# Altium schematic symbol library Adafruit PyGamer_1.SCHLIB: 52 symbols
Pins are listed as number, name and electrical type; pins without a type are passive.

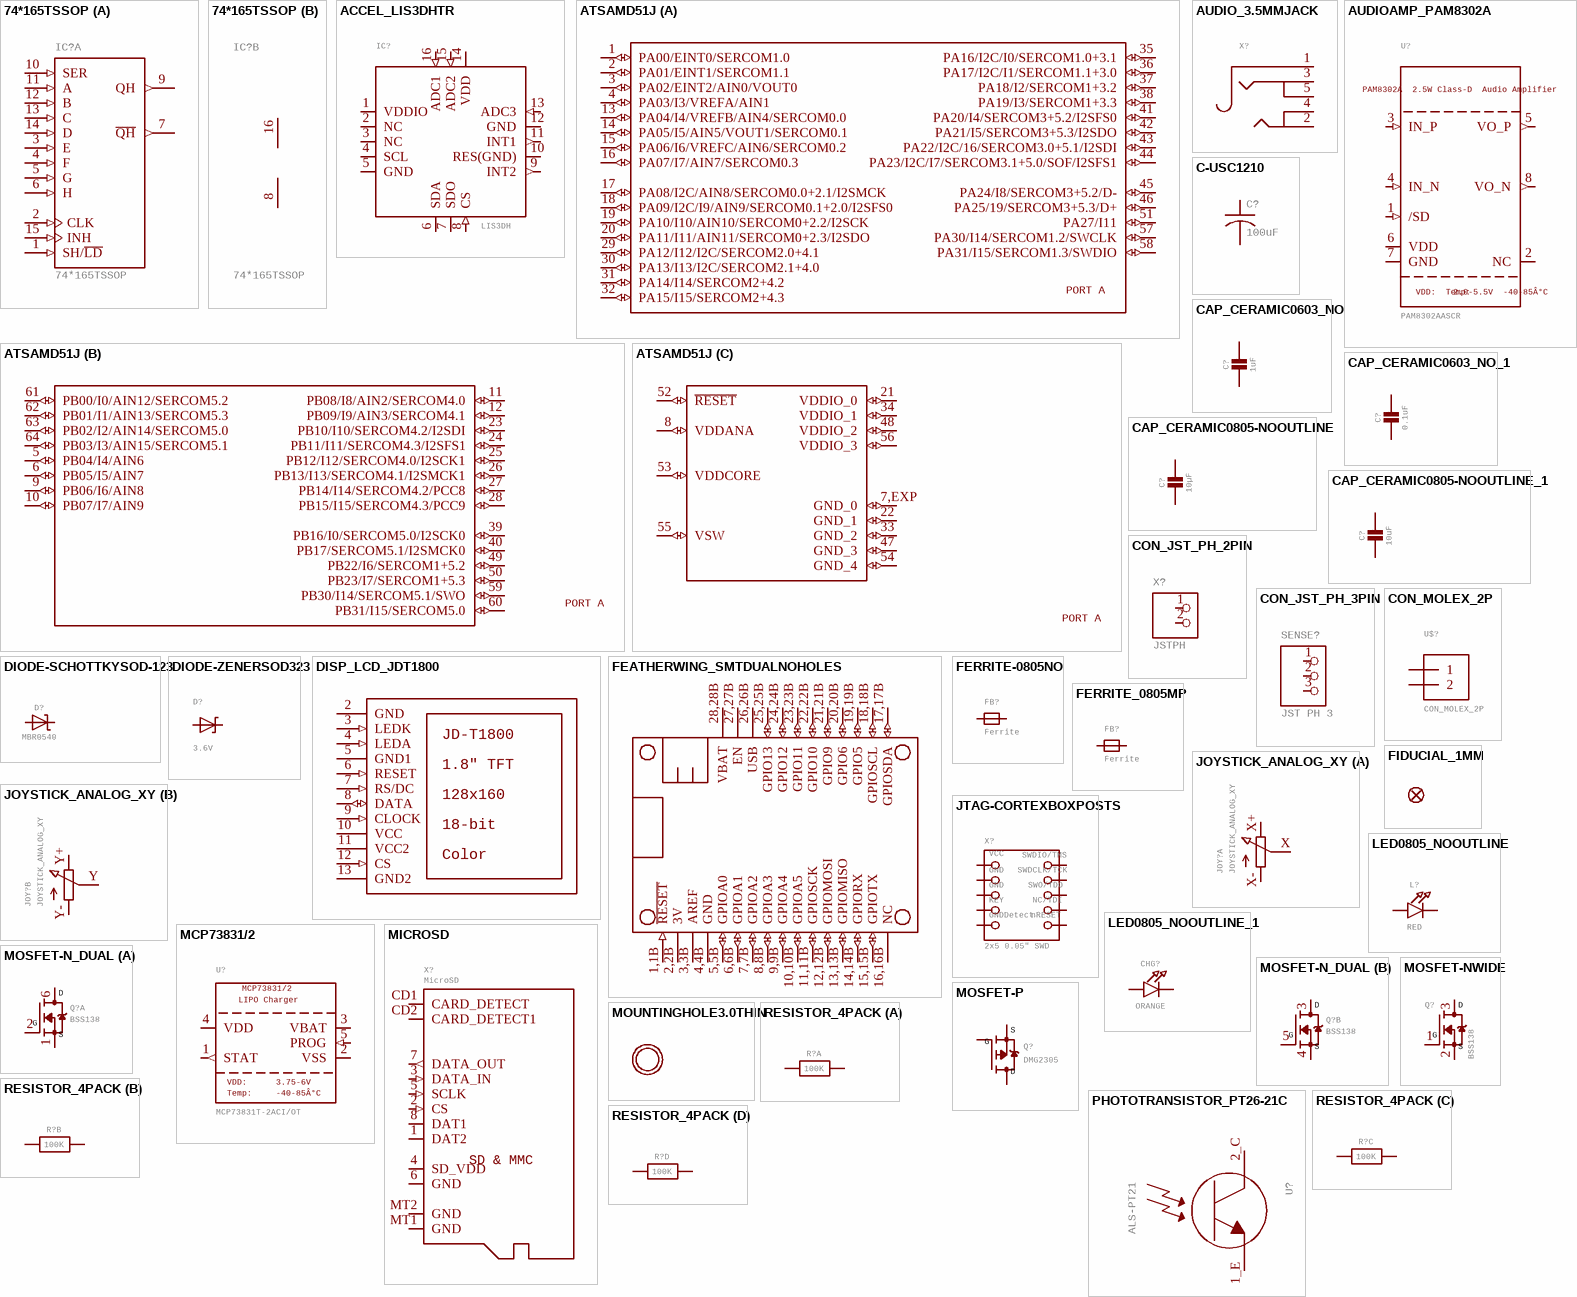
[diagram p0: symbols 74*165TSSOP to RESISTOR_4PACK]

## 74*165TSSOP
designator IC?
8-bit parallel load SHIFT REGISTER; GateName_1: A; SymbolName_1: 74165; GateName_2: P; SymbolName_2: PWRN; DeviceName: TSSOP; DeviceSetName: 74*165; LibraryName: microbuilder
footprint TSSOP16
part A pins: 1 SH/~{LD} (in), 2 CLK (in), 3 E (in), 4 F (in), 5 G (in), 6 H (in), 7 ~{QH} (out), 9 QH (out), 10 SER (in), 11 A (in), 12 B (in), 13 C (in), 14 D (in), 15 INH (in)
part B pins: 8 GND (power), 16 VCC (power)

## ACCEL_LIS3DHTR
designator IC?, comment LIS3DH
LIS3DHTR 3-Axis Accelerometer with I2C/SPI Interface    VDD: 1.71-3.6V  VDDIO: 1.71-VDD+0.1V  Scale: +/-2g, 4g, 8g, 16g with 16--bit data output  Temp:: -40Â°C - 85Â°C       Mouser: 511-LIS3DHTR Digikey: 497-10613-1-ND; GateName_1: G$1; DeviceSetName: ACCEL_LIS3DHTR; SymbolName_1: LIS3DHTR; LibraryName: microbuilder
footprint LGA16_3X3MM
pins: 1 VDDIO (power), 2 NC, 3 NC, 4 SCL (io), 5 GND (power), 6 SDA (io), 7 SDO (io), 8 CS (in), 9 INT2 (out), 10 RES(GND) (io), 11 INT1 (out), 12 GND (power), 13 ADC3 (in), 14 VDD (power), 15 ADC2 (in), 16 ADC1 (in)

## ATSAMD51J
designator U$?, comment PORTA: PORT A  (hidden comment: ATSAMD51J19)
ATSAMD51J cortex m4 microcontroller; GateName_1: G$1; SymbolName_1: ATSAMD51J_PORTA; GateName_2: G$2; SymbolName_2: ATSAMD51J_PORTB; GateName_3: G$3; SymbolName_3: ATSAMD51J_PWR; LibraryName: microbuilder; DeviceSetName: ATSAMD51J
footprint PQFN64-1
part A pins: 1 PA00/EINT0/SERCOM1.0 (io), 2 PA01/EINT1/SERCOM1.1 (io), 3 PA02/EINT2/AIN0/VOUT0 (io), 4 PA03/I3/VREFA/AIN1 (io), 13 PA04/I4/VREFB/AIN4/SERCOM0.0 (io), 14 PA05/I5/AIN5/VOUT1/SERCOM0.1 (io), 15 PA06/I6/VREFC/AIN6/SERCOM0.2 (io), 16 PA07/I7/AIN7/SERCOM0.3 (io), 17 PA08/I2C/AIN8/SERCOM0.0+2.1/I2SMCK (io), 18 PA09/I2C/I9/AIN9/SERCOM0.1+2.0/I2SFS0 (io), 19 PA10/I10/AIN10/SERCOM0+2.2/I2SCK (io), 20 PA11/I11/AIN11/SERCOM0+2.3/I2SDO (io), 29 PA12/I12/I2C/SERCOM2.0+4.1 (io), 30 PA13/I13/I2C/SERCOM2.1+4.0 (io), 31 PA14/I14/SERCOM2+4.2 (io), 32 PA15/I15/SERCOM2+4.3 (io), 35 PA16/I2C/I0/SERCOM1.0+3.1 (io), 36 PA17/I2C/I1/SERCOM1.1+3.0 (io), 37 PA18/I2/SERCOM1+3.2 (io), 38 PA19/I3/SERCOM1+3.3 (io), 41 PA20/I4/SERCOM3+5.2/I2SFS0 (io), 42 PA21/I5/SERCOM3+5.3/I2SDO (io), 43 PA22/I2C/16/SERCOM3.0+5.1/I2SDI (io), 44 PA23/I2C/I7/SERCOM3.1+5.0/SOF/I2SFS1 (io), 45 PA24/I8/SERCOM3+5.2/D- (io), 46 PA25/19/SERCOM3+5.3/D+ (io), 51 PA27/I11 (io), 57 PA30/I14/SERCOM1.2/SWCLK (io), 58 PA31/I15/SERCOM1.3/SWDIO (io)
part B pins: 5 PB04/I4/AIN6 (io), 6 PB05/I5/AIN7 (io), 9 PB06/I6/AIN8 (io), 10 PB07/I7/AIN9 (io), 11 PB08/I8/AIN2/SERCOM4.0 (io), 12 PB09/I9/AIN3/SERCOM4.1 (io), 23 PB10/I10/SERCOM4.2/I2SDI (io), 24 PB11/I11/SERCOM4.3/I2SFS1 (io), 25 PB12/I12/SERCOM4.0/I2SCK1 (io), 26 PB13/I13/SERCOM4.1/I2SMCK1 (io), 27 PB14/I14/SERCOM4.2/PCC8 (io), 28 PB15/I15/SERCOM4.3/PCC9 (io), 39 PB16/I0/SERCOM5.0/I2SCK0 (io), 40 PB17/SERCOM5.1/I2SMCK0 (io), 49 PB22/I6/SERCOM1+5.2 (io), 50 PB23/I7/SERCOM1+5.3 (io), 59 PB30/I14/SERCOM5.1/SWO (io), 60 PB31/I15/SERCOM5.0 (io), 61 PB00/I0/AIN12/SERCOM5.2 (io), 62 PB01/I1/AIN13/SERCOM5.3 (io), 63 PB02/I2/AIN14/SERCOM5.0 (io), 64 PB03/I3/AIN15/SERCOM5.1 (io)
part C pins: 7,EXP GND_0 (io), 8 VDDANA (io), 21 VDDIO_0 (io), 22 GND_1 (io), 33 GND_2 (io), 34 VDDIO_1 (io), 47 GND_3 (io), 48 VDDIO_2 (io), 52 ~{RESET} (io), 53 VDDCORE (io), 54 GND_4 (io), 55 VSW (io), 56 VDDIO_3 (io)

## AUDIO_3.5MMJACK
designator X?  (value not drawn)
3.5MM Audio Jack   These are normally connected as follows, from left-to right on the schematic symbol above: Tip: Left Audio  Inner Ring: Right Audio  Shell: Common/GND; GateName_1: G$1; SymbolName_1: 3.5MMAUDIO_5PIN; LibraryName: microbuilder; DeviceSetName: AUDIO_3.5MMJACK
footprint 4UCONN_19269
pins: 1 P$1 (io), 2 P$5 (io), 3 P$2 (io), 4 P$4 (io), 5 P$3 (io)

## AUDIOAMP_PAM8302A
designator U?, comment PAM8302AASCR  PAM8302A
2.5WClass-D
AudioAmplifier: PAM8302A / 2.5W Class-D / Audio Amplifier  VDD:
Temp: VDD: / Temp:  2.0-5.5V
-40-85Â°C: 2.0-5.5V / -40-85Â°C
PAM8302A - 2.5W Class-D Mono Audio Amplifier    MSOP8 = PAM8302AASCR; GateName_1: G$1; DeviceSetName: AUDIOAMP_PAM8302A; SymbolName_1: PAM8302A; LibraryName: microbuilder
footprint MSOP8_0.65MM
pins: 1 /SD (in), 2 NC, 3 IN_P (in), 4 IN_N (in), 5 VO_P (out), 6 VDD (power), 7 GND (power), 8 VO_N (out)

## C-USC1210
designator C?, comment 100uF
CAPACITOR, American symbol; GateName_1: G$1; SymbolName_1: C-US-1; DeviceName: C1210; DeviceSetName: C-US; LibraryName: resistor
footprint C1210
pins: 1, 2

## CAP_CERAMIC0603_NO
designator C?, comment 1uF
Ceramic Capacitors   For new designs, use the packages preceded by an '_' character since they are more reliable:   The following footprints should be used on most boards: _0402 - Standard footprint for regular board layouts  _0603 - Standard footprint for regular board layouts  _0805 - Standard footprint for regular board layouts  _1206 - Standard footprint for regular board layouts       For extremely tight-pitch boards where space is at a premium, the following 'micro-pitch' footprints can be used (smaller pads, no silkscreen outline, etc.): _0402MP - Micro-pitch footprint for very dense/compact boards  _0603MP - Micro-pitch footprint for very dense/compact boards  _0805MP - Micro-pitch footprint for very dense/compact boards  _1206MP - Micro-pitch footprint for very dense/compact boards; GateName_1: G$1; DeviceName: 0603_NO; DeviceSetName: CAP_CERAMIC; SymbolName_1: CAPACITOR; LibraryName: microbuilder
footprint 0603-NO
pins: 1, 2

## CAP_CERAMIC0603_NO_1
designator C?, comment 0.1uF
Ceramic Capacitors   For new designs, use the packages preceded by an '_' character since they are more reliable:   The following footprints should be used on most boards: _0402 - Standard footprint for regular board layouts  _0603 - Standard footprint for regular board layouts  _0805 - Standard footprint for regular board layouts  _1206 - Standard footprint for regular board layouts       For extremely tight-pitch boards where space is at a premium, the following 'micro-pitch' footprints can be used (smaller pads, no silkscreen outline, etc.): _0402MP - Micro-pitch footprint for very dense/compact boards  _0603MP - Micro-pitch footprint for very dense/compact boards  _0805MP - Micro-pitch footprint for very dense/compact boards  _1206MP - Micro-pitch footprint for very dense/compact boards; GateName_1: G$1; DeviceName: 0603_NO; DeviceSetName: CAP_CERAMIC; SymbolName_1: CAPACITOR; LibraryName: microbuilder
footprint 0603-NO
pins: 1, 2

## CAP_CERAMIC0805-NOOUTLINE
designator C?, comment 10µF
Ceramic Capacitors   For new designs, use the packages preceded by an '_' character since they are more reliable:   The following footprints should be used on most boards: _0402 - Standard footprint for regular board layouts  _0603 - Standard footprint for regular board layouts  _0805 - Standard footprint for regular board layouts  _1206 - Standard footprint for regular board layouts       For extremely tight-pitch boards where space is at a premium, the following 'micro-pitch' footprints can be used (smaller pads, no silkscreen outline, etc.): _0402MP - Micro-pitch footprint for very dense/compact boards  _0603MP - Micro-pitch footprint for very dense/compact boards  _0805MP - Micro-pitch footprint for very dense/compact boards  _1206MP - Micro-pitch footprint for very dense/compact boards; GateName_1: G$1; DeviceName: 0805-NOOUTLINE; DeviceSetName: CAP_CERAMIC; SymbolName_1: CAPACITOR; LibraryName: microbuilder; REV: C
footprint 0805-NO
pins: 1, 2

## CAP_CERAMIC0805-NOOUTLINE_1
designator C?, comment 10uF
Ceramic Capacitors   For new designs, use the packages preceded by an '_' character since they are more reliable:   The following footprints should be used on most boards: _0402 - Standard footprint for regular board layouts  _0603 - Standard footprint for regular board layouts  _0805 - Standard footprint for regular board layouts  _1206 - Standard footprint for regular board layouts       For extremely tight-pitch boards where space is at a premium, the following 'micro-pitch' footprints can be used (smaller pads, no silkscreen outline, etc.): _0402MP - Micro-pitch footprint for very dense/compact boards  _0603MP - Micro-pitch footprint for very dense/compact boards  _0805MP - Micro-pitch footprint for very dense/compact boards  _1206MP - Micro-pitch footprint for very dense/compact boards; GateName_1: G$1; DeviceName: 0805-NOOUTLINE; DeviceSetName: CAP_CERAMIC; SymbolName_1: CAPACITOR; LibraryName: microbuilder
footprint 0805-NO
pins: 1, 2

## CON_JST_PH_2PIN
designator X?, comment JSTPH
JST 2-Pin Right-Angle Connector  PH-Series - 4UConnector: 17311  SH-Series - 4UConnector: 07278; GateName_1: G$1; SymbolName_1: PINHD2; DeviceSetName: CON_JST_PH_2PIN; LibraryName: microbuilder
footprint JSTPH2
pins: 1, 2

## CON_JST_PH_3PIN
designator SENSE?, comment JST PH 3
GateName_1: G$1; SymbolName_1: PINHD3; DeviceSetName: CON_JST_PH_3PIN; LibraryName: microbuilder
footprint JSTPH3
pins: 1, 2, 3

## CON_MOLEX_2P
designator U$?
GateName_1: G$1; SymbolName_1: 1X2; LibraryName: microbuilder; DeviceSetName: CON_MOLEX_2P
footprint 53398-0271
pins: 1, 2

## DIODE-SCHOTTKYSOD-123
designator D?, comment MBR0540
GateName_1: G$1; SymbolName_1: DIODE-SCHOTTKY; DeviceName: SOD-123; LibraryName: microbuilder; DeviceSetName: DIODE-SCHOTTKY
footprint SOD-123
pins: A, C

## DIODE-ZENERSOD323
designator D?, comment 3.6V
Zener Diode   SMA: 30V 1W Zener Diode, 1.2Vf - Digikey: SMAZ30-FDICT-ND; GateName_1: G$1; SymbolName_1: DIODE-ZENER; DeviceName: SOD323; LibraryName: microbuilder; DeviceSetName: DIODE-ZENER
footprint SOD-323
pins: A, C

## DISP_LCD_JDT1800
designator LCD?  1.8"TFT: 1.8" TFT  (hidden comment: DISP_LCD_JDT1800)
GateName_1: G$1; SymbolName_1: JD-T1800; LibraryName: microbuilder; DeviceSetName: DISP_LCD_JDT1800; JD-T1800: JD-T1800; 128x160: 128x160; 18-bit: 18-bit; Color: Color
footprint JD-T1800
pins: 2 GND (power), 3 LEDK (in), 4 LEDA (in), 5 GND1 (power), 6 RESET (in), 7 RS/DC (in), 8 DATA (io), 9 CLOCK (in), 10 VCC (power), 11 VCC2 (power), 12 CS (in), 13 GND2 (power)

## FEATHERWING_SMTDUALNOHOLES
designator MS?  (value not drawn)
GateName_1: G$1; SymbolName_1: MICROSHIELD; DeviceName: _SMTDUALNOHOLES; LibraryName: microbuilder; DeviceSetName: FEATHERWING
footprint FEATHERWING_SMT_NOHOLES
pins: 1,1B ~{RESET} (in), 2,2B 3V (power), 3,3B AREF, 4,4B GND (power), 5,5B GPIOA0 (io), 6,6B GPIOA1 (io), 7,7B GPIOA2 (io), 8,8B GPIOA3 (io), 9,9B GPIOA4 (io), 10,10B GPIOA5 (io), 11,11B GPIOSCK (io), 12,12B GPIOMOSI (io), 13,13B GPIOMISO (io), 14,14B GPIORX (io), 15,15B GPIOTX (io), 16,16B NC, 17,17B GPIOSDA (io), 18,18B GPIOSCL (io), 19,19B GPIO5 (io), 20,20B GPIO6 (io), 21,21B GPIO9 (io), 22,22B GPIO10 (io), 23,23B GPIO11 (io), 24,24B GPIO12 (io), 25,25B GPIO13 (io), 26,26B USB (power), 27,27B EN, 28,28B VBAT (power)

## FERRITE-0805NO
designator FB?, comment Ferrite
Ferrite Bead   0603 MMZ1608B121C - 120 Ohm @ 100MHz, 600mA, 0.15 Ohm DC Resistance - Digikey: 445-2164-1-ND  BK1608HW121-T - 120 Ohm, 600mA Ferrite Chip - Digikey: 587-1876-2-ND       0805 HZ0805B272R-10 - 2.7K Ohm @ 100MHz, 200mA, 0.8 Ohm DC Resistance - Digikey: 240-2504-1-ND (see also Murata BLM21BD272SN1L)  MMZ2012Y152B - 1.5K Ohm @ 100MHz, 500mA, 0.4 Ohm DC Resistance - Digikey: 445-1560-1-ND - Mainly for high frequency (80-400MHz)  MMZ2012R102A - 1K Ohm @ 100MHz, 500mA, 0.3 Ohm DC Resistance - Digikey: 445-1555-2-ND - More general purpose (10-200MHz); GateName_1: G$1; DeviceName: -0805NO; SymbolName_1: FERRITE; LibraryName: microbuilder; DeviceSetName: FERRITE
footprint 0805-NO
pins: 1 P$1, 2 P$2

## FERRITE_0805MP
designator FB?, comment Ferrite
Ferrite Bead   0603 MMZ1608B121C - 120 Ohm @ 100MHz, 600mA, 0.15 Ohm DC Resistance - Digikey: 445-2164-1-ND  BK1608HW121-T - 120 Ohm, 600mA Ferrite Chip - Digikey: 587-1876-2-ND       0805 HZ0805B272R-10 - 2.7K Ohm @ 100MHz, 200mA, 0.8 Ohm DC Resistance - Digikey: 240-2504-1-ND (see also Murata BLM21BD272SN1L)  MMZ2012Y152B - 1.5K Ohm @ 100MHz, 500mA, 0.4 Ohm DC Resistance - Digikey: 445-1560-1-ND - Mainly for high frequency (80-400MHz)  MMZ2012R102A - 1K Ohm @ 100MHz, 500mA, 0.3 Ohm DC Resistance - Digikey: 445-1555-2-ND - More general purpose (10-200MHz); GateName_1: G$1; DeviceName: _0805MP; SymbolName_1: FERRITE; LibraryName: microbuilder; DeviceSetName: FERRITE
footprint _0805MP
pins: 1 P$1, 2 P$2

## FIDUCIAL_1MM
designator U$?  (value not drawn)
Fiducial Alignment Points   Various fiducial points for machine vision alignment.; GateName_1: G$1; DeviceName: _1MM; BOM: EXCLUDE; SymbolName_1: FIDUCIAL; LibraryName: microbuilder; DeviceSetName: FIDUCIAL
footprint FIDUCIAL_1MM

## JOYSTICK_ANALOG_XY
designator JOY?
GateName_1: 1; SymbolName_1: POTENTIOMETER; GateName_2: 2; SymbolName_2: POTENTIOMETER; LibraryName: microbuilder; DeviceSetName: JOYSTICK_ANALOG_XY
footprint JOYSTICK_ANALOG_MINITHM
part A pins: X S, X+ E, X- A
part B pins: Y S, Y+ E, Y- A

## JTAG-CORTEXBOXPOSTS
designator X?, comment 2x5 0.05" SWD
Serial Wire (SW-DP) Connector   Standard 0.05" 10-pin connector is for use with the Cortex M and Cortex A SWD (serial wire debugger) interface (SW-DP)Connectors 2x05_1.27MM_SMT - Inexpensive surface-mount header with bare pins, compatible with standard 10-pin SWD cables (4UCON: 16846)  2x05_1.27MM_BOX_NOPOSTS - Polarised surface-mount box (4UCON with caps: 19735, without caps: 15117  2x05_1.27MM_BOX_POSTS - Polarised surface-mount box with mounting holes (4UCON: 20317)    Pinout: http://infocenter.arm.com/help/topic/com.arm.doc.faqs/attached/13634/cortex_debug_connectors.pdf  http://www.keil.com/peripherals/coresight/connectors.asp; GateName_1: G$1; SymbolName_1: JTAG-CORTEX; DeviceName: BOXPOSTS; LibraryName: microbuilder; DeviceSetName: JTAG-CORTEX; nRESET: nRESET; NC/TDI: NC/TDI; SWO/TDO: SWO/TDO; SWDCLK/TCK: SWDCLK/TCK; SWDIO/TMS: SWDIO/TMS; VCC: VCC; GND: GND; KEY: KEY; GNDDetect: GNDDetect
footprint 2X05_1.27MM_BOX_POSTS
pins: 1 VCC (power), 2 SWDIO (io), 3 GND (power), 4 SWDCLK (io), 5 GND (power), 6 SWO (io), 7 KEY (io), 8 TDI (io), 9 GNDDETECT (io), 10 NRESET (io)

## LED0805_NOOUTLINE
designator L?, comment RED
LED0603 - 0603 Surface Mount Package    2mA: Green LED - Low Power (3.9mcd, 2ma, 1.7Vf) - Digikey: 475-2709-2-ND  Orange LED - Low Power (9.8mcd, 2ma, 1.8Vf) - Digikey: 475-1194-2-ND  Red LED - Low Power (5mcd, 2ma, 1.8Vf) - Digikey: 475-1195-2-ND  Yellow LED - Low Power (7mcd, 2ma, 1.8Vf) - Digikey: 475-1196-2-ND       5mA: Blue LED - Low Power (17mcd, 5ma, 2.9Vf) - Digikey: LNJ937W8CRACT-ND    0805 - 0805 Surface Mount Package    2mA: Red LED (8.8mcd, 2mA, 1.8Vf, Clear) - Low Power [Digikey: 475-2510-1-ND]  Green LED (5mcd, 2mA, 1.8Vf, Clear) - Low Power [Digikey: 475-2730-1-ND]  Yellow LED (11.3mcd, 2mA, 1.8Vf, Clear) - Low Power [Digikey: 475-2555-1-ND]       20mA: Red LED (104mcd, 20mA, Diffused) - LS R976 [Digikey: 475-1278-6-ND]  Red LED (12mcd, 20mA, 2.0Vf, Clear) - APT2012EC [Digikey: 754-1128-1-ND]  Green LED (15mcd, 20mA, 2.2Vf, Clear) - APT2012GC [Digikey: 754-1131-1-ND]  Orange LED (160mcd, 20mA, 2.1Vf, Clear) - APT2012SECK [Digikey: 754-1130-1-ND]     1206 - 1206 Surface Mount Package  Green LED (26mcd, 20mA, Diffused) - LG N971  [Digikey: 475-1407-6-ND]  Red LED (15mcd, 20mA, Diffused) - LH N974 [Digikey: 475-1416-6-ND]     Cree - Cree High-Power Surface Mount LEDs  XPEBWT-L1-0000-00D50 - White 111lm 350mA 2.9Vf 6200K 110Â°  XTEAWT-00-0000-00000LEE3 - White 114lm 350mA 2.85Vf 5000K 115Â°     Everlight - Everlight 45-21 Series Surface Mount LEDs  45-21/QK2C-B2832AC2CB2/2T - Warm White 2000mcd 20mA 3.25Vf 3050K 120Â°  45-21/LK2C-B38452C4CB2/2T - Nuetral White 2000mcd 20mA 3.25Vf 4150K 120Â°  45-21/LK2C-B50634C6CB2/2T - Cold White 2200mcd 20mA 3.25Vf 5650K 120Â°     PLCC2 Reverse Mount LS T77K-J1L2-1-0-2-R18-Z - Red 11.25mcd 2mA 1.8Vf 630nm 120Â°  LO T77K-L1M2-24-Z - Orange 19.6mcd 2mA 1.8Vf 606nm 120Â°  LY T77K-K2M1-26-Z - Yellow 15.7mcd 2mA 1.8Vf 587nm 120Â°; GateName_1: G$1; DeviceName: 0805_NOOUTLINE; SymbolName_1: LED; LibraryName: microbuilder; DeviceSetName: LED
footprint CHIPLED_0805_NOOUTLINE
pins: A, C

## LED0805_NOOUTLINE_1
designator CHG?, comment ORANGE
LED0603 - 0603 Surface Mount Package    2mA: Green LED - Low Power (3.9mcd, 2ma, 1.7Vf) - Digikey: 475-2709-2-ND  Orange LED - Low Power (9.8mcd, 2ma, 1.8Vf) - Digikey: 475-1194-2-ND  Red LED - Low Power (5mcd, 2ma, 1.8Vf) - Digikey: 475-1195-2-ND  Yellow LED - Low Power (7mcd, 2ma, 1.8Vf) - Digikey: 475-1196-2-ND       5mA: Blue LED - Low Power (17mcd, 5ma, 2.9Vf) - Digikey: LNJ937W8CRACT-ND    0805 - 0805 Surface Mount Package    2mA: Red LED (8.8mcd, 2mA, 1.8Vf, Clear) - Low Power [Digikey: 475-2510-1-ND]  Green LED (5mcd, 2mA, 1.8Vf, Clear) - Low Power [Digikey: 475-2730-1-ND]  Yellow LED (11.3mcd, 2mA, 1.8Vf, Clear) - Low Power [Digikey: 475-2555-1-ND]       20mA: Red LED (104mcd, 20mA, Diffused) - LS R976 [Digikey: 475-1278-6-ND]  Red LED (12mcd, 20mA, 2.0Vf, Clear) - APT2012EC [Digikey: 754-1128-1-ND]  Green LED (15mcd, 20mA, 2.2Vf, Clear) - APT2012GC [Digikey: 754-1131-1-ND]  Orange LED (160mcd, 20mA, 2.1Vf, Clear) - APT2012SECK [Digikey: 754-1130-1-ND]     1206 - 1206 Surface Mount Package  Green LED (26mcd, 20mA, Diffused) - LG N971  [Digikey: 475-1407-6-ND]  Red LED (15mcd, 20mA, Diffused) - LH N974 [Digikey: 475-1416-6-ND]     Cree - Cree High-Power Surface Mount LEDs  XPEBWT-L1-0000-00D50 - White 111lm 350mA 2.9Vf 6200K 110Â°  XTEAWT-00-0000-00000LEE3 - White 114lm 350mA 2.85Vf 5000K 115Â°     Everlight - Everlight 45-21 Series Surface Mount LEDs  45-21/QK2C-B2832AC2CB2/2T - Warm White 2000mcd 20mA 3.25Vf 3050K 120Â°  45-21/LK2C-B38452C4CB2/2T - Nuetral White 2000mcd 20mA 3.25Vf 4150K 120Â°  45-21/LK2C-B50634C6CB2/2T - Cold White 2200mcd 20mA 3.25Vf 5650K 120Â°     PLCC2 Reverse Mount LS T77K-J1L2-1-0-2-R18-Z - Red 11.25mcd 2mA 1.8Vf 630nm 120Â°  LO T77K-L1M2-24-Z - Orange 19.6mcd 2mA 1.8Vf 606nm 120Â°  LY T77K-K2M1-26-Z - Yellow 15.7mcd 2mA 1.8Vf 587nm 120Â°; GateName_1: G$1; DeviceName: 0805_NOOUTLINE; SymbolName_1: LED; LibraryName: microbuilder; DeviceSetName: LED
footprint CHIPLED_0805_NOOUTLINE
pins: A, C

## MCP73831/2
designator U?, comment MCP73831T-2ACI/OT  LIPOCharger: LIPO Charger  Temp: Temp:  VDD: VDD:
MCP73831/2 LIPO Charger    VDD: 3.75 - 6V  Temp -40 - 85Â°C  Programmable Charge Rate: 15-500mA       NOTE: STAT is a tri-state logic output on the MCP73831 and an open-drain output on the MCP73832.   SOT23-5 with 4.2V output and tri-state logic on STAT = MCP73831T-2ACI/OT; GateName_1: G$1; SymbolName_1: MCP73831/2; LibraryName: microbuilder; DeviceSetName: MCP73831/2; MCP73831/2: MCP73831/2; -40-85Â°C: -40-85Â°C; 3.75-6V: 3.75-6V
footprint SOT23-5
pins: 1 STAT (out), 2 VSS (power), 3 VBAT (power), 4 VDD (power), 5 PROG (in)

## MICROSD
designator X?, comment MicroSD  SD&MMC: SD & MMC
MicroSD/Transflash Card Holder with SPI pinout   3M: 2908-05WB-MG 4UConnector: 19656   Footprint courtesy: Adafruit Industries; GateName_1: G$1; SymbolName_1: TRANSFLASH; LibraryName: microbuilder; DeviceSetName: MICROSD
footprint MICROSD
pins: 1 DAT2 (io), 2 CS (in), 3 DATA_IN (in), 4 SD_VDD (power), 5 SCLK (in), 6 GND (power), 7 DATA_OUT (out), 8 DAT1 (io), CD1 CARD_DETECT, CD2 CARD_DETECT1, MT1 GND (power), MT2 GND (power)

## MOSFET-N_DUAL
designator Q?, comment BSS138
Dual N-Channel MOSFET   SOT363 (2.0x1.25mm) 2N7002PS - 60V, 320mA [Digikey: 568-5984-1-ND]; GateName_1: 1; SymbolName_1: MOSFET-N; GateName_2: 2; DeviceSetName: MOSFET-N_DUAL; SymbolName_2: MOSFET-N; LibraryName: microbuilder; D: D; S: S; G: G
footprint SOT363
part A pins: 1 S (io), 2 G (io), 6 D (io)
part B pins: 3 D (io), 4 S (io), 5 G (io)

## MOSFET-NWIDE
designator Q?, comment BSS138
N-Channel Mosfet   LEGEND   VDS: Voltage Drain-Source ID: Drain Current RDS(ON): Drain-Source On-State Resistance VGS(TH): Gate-Source Threshold Voltage CISS: Drain-Source Input Capacitance    SOT-23   Name	VDS	ID	RDS(ON)	VGS(TH)	CISS	Order Number	   2N7002E	60V	260mA	2.5 Ohm	2.5V @ 250uA	26.7pF @ 25V	2N7002ET1GOSTR-ND	   BSH103	30V	850mA	400 mOhm	400mV @ 1mA	83pF @ 24V	BSH103,235-ND	   BSS138	60V	320mA	1.6 Ohm	1.5V @ 250uA	50pF @ 10V	Mouser: 771-BSS138PW115	   DMN2075U-7	20V	4.2A	38 mOhm	1V @ 250 uA	594.3pF @ 10V	DMN2075U-7DICT-ND	   							   * BSS138 good choice for I2C level-shifting   POWERPAK 1212-8   Name	VDS	ID	RDS(ON)	VGS(TH)	CISS	Order Number	   Si7308DN	60V	6A	58 mOhm	3V @ 250uA	665pF @ 15V	SI7308DN-T1-E3CT-ND; GateName_1: G$1; SymbolName_1: MOSFET-N; DeviceName: WIDE; LibraryName: microbuilder; DeviceSetName: MOSFET-N; D: D; S: S; G: G
footprint SOT23-WIDE
pins: 1 G (io), 2 S (io), 3 D (io)

## MOSFET-P
designator Q?, comment DMG2305
P-Channel Mosfet   LEGEND   VDS: Voltage Drain-Source ID: Drain Current RDS(ON): Drain-Source On-State Resistance VGS(TH): Gate-Source Threshold Voltage CISS: Drain-Source Input Capacitance    SOT-23   Name	VDS	ID	RDS(ON)	VGS(TH)	CISS	Order Number	   IRLML5103	30V	760mA	600 mOhm	--	75pF @ 25V	Digikey: IRLML5103PBFCT-ND	   IRLML6401	12V	4.3A	50 mOhm	950mV @ 250ÂµA	830pF @ 10V	Digikey: IRLML6401PBFTR-ND	   NTR0202PL	20V	400mA	800 mOhm	2.3V @ 250uA	70pF @ 5V	Digikey: NTR0202PLT1GOSTR-ND	   NTR4101PT1G	20V	1.8A	85 mOhm	1.2V @ 250uA	675pF @ 10V	Digikey: NTR4101PT1GOSCT-ND	   DMP2004K	20V	600mA	900 mOhm	1V @ 250uA	175pF @ 16V	Digikey: DMP2004KDICT-ND	   PMV65XP	20V	3.9A	76 mOhm	950mV @ 1mA	725pF @ 20V	Digikey: 568-2358-2-ND	   							   							TO-252   Name	VDS	ID	RDS(ON)	VGS(TH)	CISS	Order Number	   AOD417	30V	25A	34 mOhm	3V @ 250ÂµA	920pF @ 15V	Digikey: 785-1106-2-ND	PowerPak   Name	VDS	ID	RDS(ON)	VGS(TH)	CISS	Order Number	   AON7401	30V	12A	14 mOhm	3V @ 250ÂµA	2600pF @ 15V	Digikey: 785-1302-1-ND; GateName_1: G$1; SymbolName_1: MOSFET-P; LibraryName: microbuilder; DeviceSetName: MOSFET-P; D: D; S: S; G: G
footprint SOT23-R
pins: 1 G, 2 S, 3 D

## MOUNTINGHOLE3.0THIN
designator U$?  (value not drawn)
Mounting Hole   For #2 screws (0.086"/2.18mm width, 0.094"/2.4mm hole) use 2.5mm; GateName_1: G$1; BOM: EXCLUDE; SymbolName_1: MOUNTINGHOLE; DeviceName: 3.0THIN; LibraryName: microbuilder; DeviceSetName: MOUNTINGHOLE
footprint MOUNTINGHOLE_3.0_PLATEDTHIN

## PHOTOTRANSISTOR_PT26-21C
designator U?, comment ALS-PT21
ALS-PT19-315C - Analog Light Sensor   VCC: 2.5-5.5V; GateName_1: G$1; DeviceName: _PT26-21C; DeviceSetName: PHOTOTRANSISTOR; SymbolName_1: ALS-PT19-315C; LibraryName: microbuilder
footprint ALS-PT26-21C
pins: 1_E E (io), 2_C C (io)

## RESISTOR_4PACK
designator R?, comment 100K
Resistor Packs (4 resistors)   4 x 0603 10K 1/16W - Digikey: YC164J-10KCT-ND; GateName_1: G$1; GateName_2: G$2; GateName_3: G$3; GateName_4: G$4; DeviceSetName: RESISTOR_4PACK; SymbolName_1: RESISTOR; SymbolName_2: RESISTOR; SymbolName_3: RESISTOR; SymbolName_4: RESISTOR; LibraryName: microbuilder
footprint RESPACK_4X0603
part A pins: 1, 8 2
part B pins: 2 1, 7 2
part C pins: 3 1, 6 2
part D pins: 4 1, 5 2

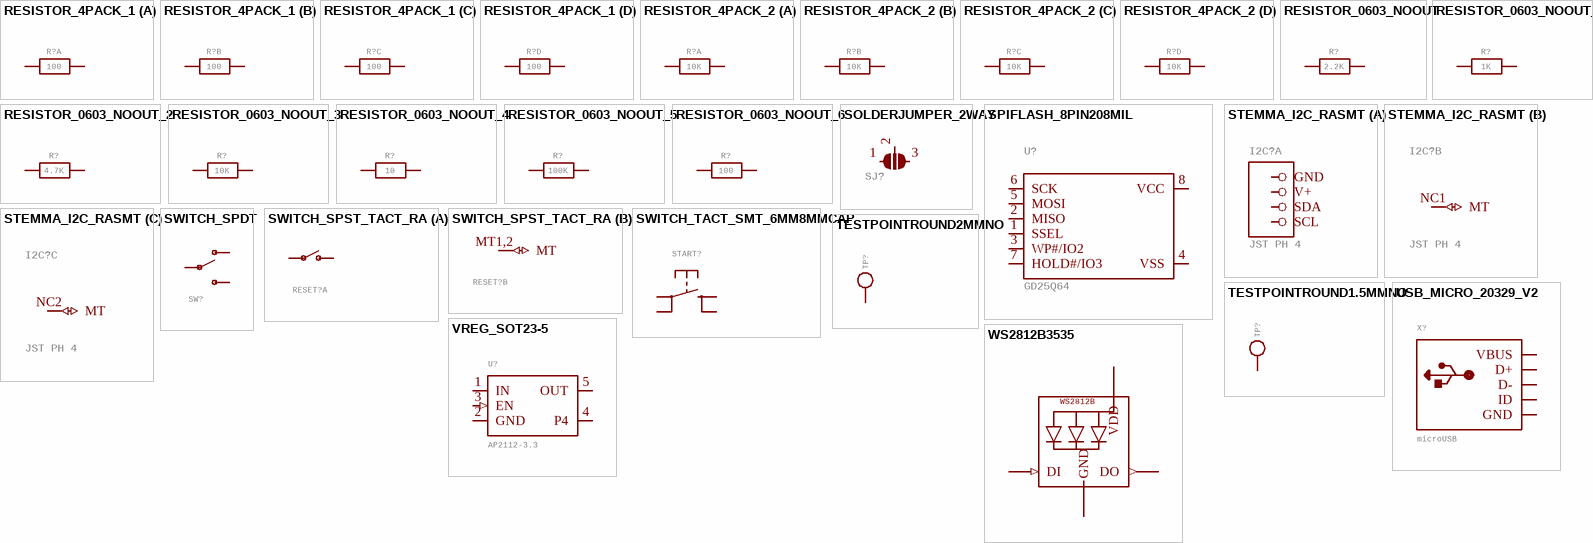
[diagram p1: symbols RESISTOR_4PACK_1 to WS2812B3535]

## RESISTOR_4PACK_1
designator R?, comment 100
Resistor Packs (4 resistors)   4 x 0603 10K 1/16W - Digikey: YC164J-10KCT-ND; GateName_1: G$1; GateName_2: G$2; GateName_3: G$3; GateName_4: G$4; DeviceSetName: RESISTOR_4PACK; SymbolName_1: RESISTOR; SymbolName_2: RESISTOR; SymbolName_3: RESISTOR; SymbolName_4: RESISTOR; LibraryName: microbuilder
footprint RESPACK_4X0603
part A pins: 1, 8 2
part B pins: 2 1, 7 2
part C pins: 3 1, 6 2
part D pins: 4 1, 5 2

## RESISTOR_4PACK_2
designator R?, comment 10K
Resistor Packs (4 resistors)   4 x 0603 10K 1/16W - Digikey: YC164J-10KCT-ND; GateName_1: G$1; GateName_2: G$2; GateName_3: G$3; GateName_4: G$4; DeviceSetName: RESISTOR_4PACK; SymbolName_1: RESISTOR; SymbolName_2: RESISTOR; SymbolName_3: RESISTOR; SymbolName_4: RESISTOR; LibraryName: microbuilder
footprint RESPACK_4X0603
part A pins: 1, 8 2
part B pins: 2 1, 7 2
part C pins: 3 1, 6 2
part D pins: 4 1, 5 2

## RESISTOR_0603_NOOUT
designator R?, comment 2.2K
Resistors   For new designs, use the packages preceded by an '_' character since they are more reliable:   The following footprints should be used on most boards: _0402 - Standard footprint for regular board layouts  _0603 - Standard footprint for regular board layouts  _0805 - Standard footprint for regular board layouts  _1206 - Standard footprint for regular board layouts       For extremely tight-pitch boards where space is at a premium, the following 'micro-pitch' footprints can be used (smaller pads, no silkscreen outline, etc.): _0402MP - Micro-pitch footprint for very dense/compact boards  _0603MP - Micro-pitch footprint for very dense/compact boards  _0805MP - Micro-pitch footprint for very dense/compact boards  _1206MP - Micro-pitch footprint for very dense/compact boards; GateName_1: G$1; DeviceName: _0603_NOOUT; SymbolName_1: RESISTOR; LibraryName: microbuilder; DeviceSetName: RESISTOR
footprint 0603-NO
pins: 1, 2

## RESISTOR_0603_NOOUT_1
designator R?, comment 1K
Resistors   For new designs, use the packages preceded by an '_' character since they are more reliable:   The following footprints should be used on most boards: _0402 - Standard footprint for regular board layouts  _0603 - Standard footprint for regular board layouts  _0805 - Standard footprint for regular board layouts  _1206 - Standard footprint for regular board layouts       For extremely tight-pitch boards where space is at a premium, the following 'micro-pitch' footprints can be used (smaller pads, no silkscreen outline, etc.): _0402MP - Micro-pitch footprint for very dense/compact boards  _0603MP - Micro-pitch footprint for very dense/compact boards  _0805MP - Micro-pitch footprint for very dense/compact boards  _1206MP - Micro-pitch footprint for very dense/compact boards; GateName_1: G$1; DeviceName: _0603_NOOUT; SymbolName_1: RESISTOR; LibraryName: microbuilder; DeviceSetName: RESISTOR
footprint 0603-NO
pins: 1, 2

## RESISTOR_0603_NOOUT_2
designator R?, comment 4.7K
Resistors   For new designs, use the packages preceded by an '_' character since they are more reliable:   The following footprints should be used on most boards: _0402 - Standard footprint for regular board layouts  _0603 - Standard footprint for regular board layouts  _0805 - Standard footprint for regular board layouts  _1206 - Standard footprint for regular board layouts       For extremely tight-pitch boards where space is at a premium, the following 'micro-pitch' footprints can be used (smaller pads, no silkscreen outline, etc.): _0402MP - Micro-pitch footprint for very dense/compact boards  _0603MP - Micro-pitch footprint for very dense/compact boards  _0805MP - Micro-pitch footprint for very dense/compact boards  _1206MP - Micro-pitch footprint for very dense/compact boards; GateName_1: G$1; DeviceName: _0603_NOOUT; SymbolName_1: RESISTOR; LibraryName: microbuilder; DeviceSetName: RESISTOR
footprint 0603-NO
pins: 1, 2

## RESISTOR_0603_NOOUT_3
designator R?, comment 10K
Resistors   For new designs, use the packages preceded by an '_' character since they are more reliable:   The following footprints should be used on most boards: _0402 - Standard footprint for regular board layouts  _0603 - Standard footprint for regular board layouts  _0805 - Standard footprint for regular board layouts  _1206 - Standard footprint for regular board layouts       For extremely tight-pitch boards where space is at a premium, the following 'micro-pitch' footprints can be used (smaller pads, no silkscreen outline, etc.): _0402MP - Micro-pitch footprint for very dense/compact boards  _0603MP - Micro-pitch footprint for very dense/compact boards  _0805MP - Micro-pitch footprint for very dense/compact boards  _1206MP - Micro-pitch footprint for very dense/compact boards; GateName_1: G$1; DeviceName: _0603_NOOUT; SymbolName_1: RESISTOR; LibraryName: microbuilder; DeviceSetName: RESISTOR
footprint 0603-NO
pins: 1, 2

## RESISTOR_0603_NOOUT_4
designator R?, comment 10
Resistors   For new designs, use the packages preceded by an '_' character since they are more reliable:   The following footprints should be used on most boards: _0402 - Standard footprint for regular board layouts  _0603 - Standard footprint for regular board layouts  _0805 - Standard footprint for regular board layouts  _1206 - Standard footprint for regular board layouts       For extremely tight-pitch boards where space is at a premium, the following 'micro-pitch' footprints can be used (smaller pads, no silkscreen outline, etc.): _0402MP - Micro-pitch footprint for very dense/compact boards  _0603MP - Micro-pitch footprint for very dense/compact boards  _0805MP - Micro-pitch footprint for very dense/compact boards  _1206MP - Micro-pitch footprint for very dense/compact boards; GateName_1: G$1; DeviceName: _0603_NOOUT; SymbolName_1: RESISTOR; LibraryName: microbuilder; DeviceSetName: RESISTOR
footprint 0603-NO
pins: 1, 2

## RESISTOR_0603_NOOUT_5
designator R?, comment 100K
Resistors   For new designs, use the packages preceded by an '_' character since they are more reliable:   The following footprints should be used on most boards: _0402 - Standard footprint for regular board layouts  _0603 - Standard footprint for regular board layouts  _0805 - Standard footprint for regular board layouts  _1206 - Standard footprint for regular board layouts       For extremely tight-pitch boards where space is at a premium, the following 'micro-pitch' footprints can be used (smaller pads, no silkscreen outline, etc.): _0402MP - Micro-pitch footprint for very dense/compact boards  _0603MP - Micro-pitch footprint for very dense/compact boards  _0805MP - Micro-pitch footprint for very dense/compact boards  _1206MP - Micro-pitch footprint for very dense/compact boards; GateName_1: G$1; DeviceName: _0603_NOOUT; SymbolName_1: RESISTOR; LibraryName: microbuilder; DeviceSetName: RESISTOR
footprint 0603-NO
pins: 1, 2

## RESISTOR_0603_NOOUT_6
designator R?, comment 100
Resistors   For new designs, use the packages preceded by an '_' character since they are more reliable:   The following footprints should be used on most boards: _0402 - Standard footprint for regular board layouts  _0603 - Standard footprint for regular board layouts  _0805 - Standard footprint for regular board layouts  _1206 - Standard footprint for regular board layouts       For extremely tight-pitch boards where space is at a premium, the following 'micro-pitch' footprints can be used (smaller pads, no silkscreen outline, etc.): _0402MP - Micro-pitch footprint for very dense/compact boards  _0603MP - Micro-pitch footprint for very dense/compact boards  _0805MP - Micro-pitch footprint for very dense/compact boards  _1206MP - Micro-pitch footprint for very dense/compact boards; GateName_1: G$1; DeviceName: _0603_NOOUT; SymbolName_1: RESISTOR; LibraryName: microbuilder; DeviceSetName: RESISTOR
footprint 0603-NO
pins: 1, 2

## SOLDERJUMPER_2WAY
designator SJ?  (value not drawn)
2-Way Solder Jumper; GateName_1: G$1; SymbolName_1: SOLDERJUMPER_2WAY; LibraryName: microbuilder; DeviceSetName: SOLDERJUMPER_2WAY
footprint SOLDERJUMPER_2WAY_OPEN_NOPASTE
pins: 1, 2, 3

## SPIFLASH_8PIN208MIL
designator U?, comment GD25Q64
SOIC8 SPI Flash   Be careful with the size since SOIC8 flash comes in several 'widths'   SOIC8 150 mil M25P16 - 16Mbit (2Mbit x 8) Serial Flash (75MHz SPI Bus), Supply: 2.7-3.6V  Digikey:  SOIC8 - M25P16-VMN6P-ND       SOIC8 208 mil W25Q16BVSSIG - 16Mbit (2Mbit x 8) Serial Flash (104MHz SPI Bus), Supply: 2.7-3.6V  Digikey:  SOIC8 - W25Q16BVSSIG-ND; GateName_1: G$1; DeviceName: 208MIL; DeviceSetName: SPIFLASH_8PIN; SymbolName_1: M25P16; LibraryName: microbuilder
footprint SOIC8_208MIL
pins: 1 SSEL (io), 2 MISO (io), 3 WP#/IO2 (io), 4 VSS (io), 5 MOSI (io), 6 SCK (io), 7 HOLD#/IO3 (io), 8 VCC (io)

## STEMMA_I2C_RASMT
designator I2C?, comment JST PH 4
GateName_1: G$1; SymbolName_1: STEMMA_I2C; GateName_2: G$2; SymbolName_2: MOUNTING; GateName_3: G$3; DeviceName: _RASMT; SymbolName_3: MOUNTING; LibraryName: microbuilder; DeviceSetName: STEMMA_I2C
footprint JSTPH4
part A pins: 1 GND, 2 V+, 3 SDA, 4 SCL
part B pins: NC1 MT (io)
part C pins: NC2 MT (io)

## SWITCH_SPDT
designator SW?  (value not drawn)
Switch - SPDT SSSS811101 - Horizontal Two Position SMT, 0.3A 4V [Mouser: 688-SSSS811101]; GateName_1: G$1; SymbolName_1: SWITCH_SPDT; LibraryName: microbuilder; DeviceSetName: SWITCH_SPDT
footprint SPDT_SMT_SSSS811101
pins: A O, B P, C S

## SWITCH_SPST_TACT_RA
designator RESET?  (value not drawn)
Switch - SPST 4UCon 19192 (6.7x2.6mm SMT); GateName_1: G$1; GateName_2: G$2; SymbolName_2: MOUNTING; SymbolName_1: SWITCH_SPST; DeviceName: _TACT_RA; LibraryName: microbuilder; DeviceSetName: SWITCH_SPST
footprint SPST_TACTILE_RA
part A pins: 1 P, 2 S
part B pins: MT1,2 MT (io)

## SWITCH_TACT_SMT_6MM8MMCAP
designator START?  (value not drawn)
SMT Tact Switches 6x6mm - Digikey: P12940SCT-ND  KMR2 (4.6x2.8mm) - Digikey: 401-1426-1-ND  EVQ-PQHB55 - Light Touch, 160GF (4.5x4.5mm) - Digikey: P8090SCT-ND  KMT0 - KMT021 NGJ LHS (etc.) IP68/Waterproof - Digikey: CKN10289CT-ND; GateName_1: G$1; SymbolName_1: BUTTON_4PIN; DeviceName: _6MM8MMCAP; LibraryName: microbuilder; DeviceSetName: SWITCH_TACT_SMT
footprint 6MM_SMT_6MMCAP
pins: A P, A' P1, B S, B' S1

## TESTPOINTROUND1.5MMNO
designator TP?  (value not drawn)
Test Point   Various test points for characterisation and PCB testing    TESTPOINT_SMT - Compact Surface Mount Test Point [Digikey: 5016KTR-ND]; GateName_1: G$1; SymbolName_1: TESTPOINT; DeviceName: ROUND1.5MMNO; LibraryName: microbuilder; DeviceSetName: TESTPOINT
footprint TESTPOINT_ROUND_1.5MM_NO
pins: P$1 (io)

## TESTPOINTROUND2MMNO
designator TP?  (value not drawn)
Test Point   Various test points for characterisation and PCB testing    TESTPOINT_SMT - Compact Surface Mount Test Point [Digikey: 5016KTR-ND]; GateName_1: G$1; SymbolName_1: TESTPOINT; DeviceName: ROUND2MMNO; LibraryName: microbuilder; DeviceSetName: TESTPOINT
footprint TESTPOINT_ROUND_2MM_NO
pins: P$1 (io)

## USB_MICRO_20329_V2
designator X?, comment microUSB
USB ConnectorsUSBMINIB - Surface Mount Female Mini-B USB Connector    4UConnector: 06564; GateName_1: G$1; DeviceName: _MICRO_20329_V2; SymbolName_1: USB; LibraryName: microbuilder; DeviceSetName: USB
footprint 4UCONN_20329_V2
pins: BASE@1,BASE@2,GND,SPRT@1,SPRT@2,SPRT@3,SPRT@4 GND (power), D+ (io), D- (io), ID (io), VBUS (power)

## VREG_SOT23-5
designator U?, comment AP2112-3.3
SOT23-5 Fixed Voltage Regulators      Part	Current Out	V Out	V In	V Dropout	Î¸JA (Â°C/W)	TJ (Â°C)	Digikey Part No.	     ADP121	  150mA	  3.3V	  3.4-5.5V	  0.09V @ 150mA	  --	  --	  ADP121-AUJZ33R7CT-ND	     ADP121	  150mA	  3.0V	  3.1-5.5V	  0.09V @ 150mA	  --	  --	  ADP121-AUJZ30R7CT-ND	     ADP122	  300mA	  3.3V	  3.4-5.5V	  0.085V @ 300mA	  --	  --	  ADP122AUJZ-3.3-R7CT-ND	     ADP1712	  300mA	  3.3V	  3.5-5.5V	  0.17V @ 300mA	  --	  --	  ADP1712AUJZ-3.3-R7TR-ND	     AP7311 (Low Cost)	  150mA	  3.3V	  3.5-6V	  0.15V @ 150mA	  --	  --	  AP7311-33WG-7DICT-ND	     LD39015M18R	  150mA	  1.8V	  1.9V-5.5V	  0.08V @ 100mA	  --	  --	  497-6977-1-ND	     LP2985A-33DBVR	  150mA	  3.3V	  3.3-16V	  0.28V @ 150mA	  206	  150	  296-18479-1-ND	     MCP1824T-3302E/OT	  300mA	  3.3V	  3.5V-6V	  0.2V @ 300mA	  --	  --	  MCP1824T-3302E/OTCT-ND	     MIC5205-2.5YM5 TR	  150mA	  2.5V	  2.7-16V	  0.165V @ 150mA	  --	  --	  576-1257-2-ND	     MIC5205-3.0YM5 TR	  150mA	  3.0V	  3.2V-16V	  0.165V @ 150mA	  --	  --	  576-1258-2-ND	     MIC5205-3.3YM5 TR	  150mA	  3.3V	  3.5V-16V	  0.165V @ 150mA	  --	  --	  576-1259-2-ND	     TPS780330220	  150mA	  3.3V+2.2V	  3.6-5.5V	  250mV Max	  --	  --	  296-23332-1-ND	     TDA3663/N1,135	  100mA	  3.3V	  3.5-45V	  0.18V @ 50mA	  --	  --	  568-5343-1-ND	     	  	  	  	  	  	  	  	     	  	  	  	  	  	  	  	   Max operating temp can be calculated using Î¸JA, TJ (max junction temperature), and power in watts.  Set the "Maximum Ambient Temperature" until it reaches TJ ("Max Junction Temperature"), which is the absolute limit for safe use of the regulator: Heat Sink Temperature Calculator   For example, With 12V source into a 3.3V LP2985 and a 30mA load, we are dissipating (12V-3.3V) * 0.03A = 0.261W.  With a Î¸JA of 206 Â°C/W, a TJ of 150Â°C, and 261mW we can safely use the chip without a heat sink up to 75Â°C (=147.1Â°C Junction Temperature).; GateName_1: G$1; SymbolName_1: VREG_SOT23-5; LibraryName: microbuilder; DeviceSetName: VREG_SOT23-5
footprint SOT23-5
pins: 1 IN (power), 2 GND (power), 3 EN (in), 4 P4 (io), 5 OUT (power)

## WS2812B3535
designator LED?  (value not drawn)
GateName_1: G$1; SymbolName_1: WS2812BLED; DeviceName: 3535; LibraryName: microbuilder; DeviceSetName: WS2812B; WS2812B: WS2812B
footprint LED3535
pins: 1 DI (in), 2 VDD (power), 3 DO (out), 4 GND (power)